# EAGLE library part EOSCOPE_XC9572-PC44 (library eOscope)
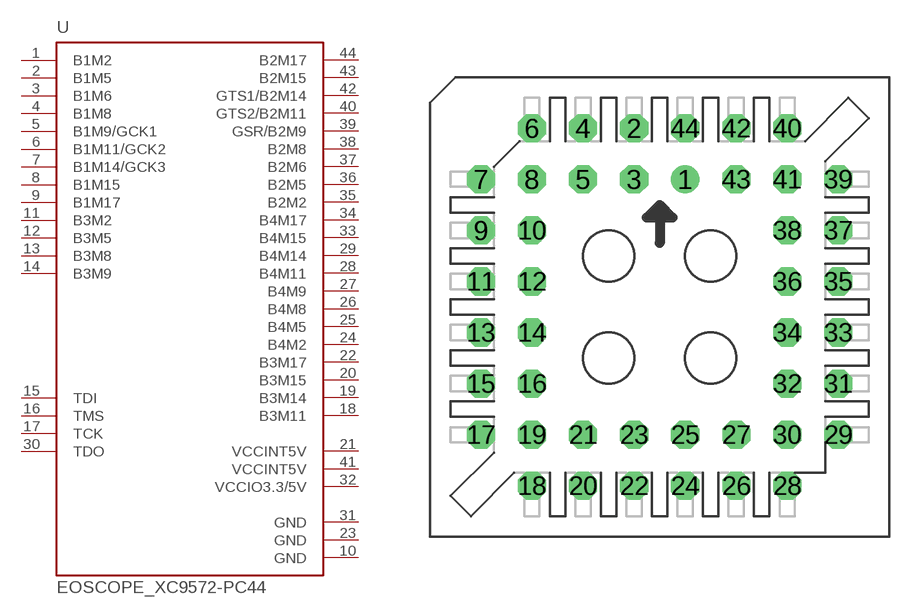
[diagram p16: symbol with the pads of EOSCOPE_PLCC-S44; footprint EOSCOPE_PLCC-S44]

Designator prefix -

## EOSCOPE_XC9572-PC44  [EOSCOPE_PLCC-S44]
1  B1M2
2  B1M5
3  B1M6
4  B1M8
5  B1M9/GCK1
6  B1M11/GCK2
7  B1M14/GCK3
8  B1M15
9  B1M17
10  GND
11  B3M2
12  B3M5
13  B3M8
14  B3M9
15  TDI
16  TMS
17  TCK
18  B3M11
19  B3M14
20  B3M15
21  VCCINT5V
22  B3M17
23  GND
24  B4M2
25  B4M5
26  B4M8
27  B4M9
28  B4M11
29  B4M14
30  TDO
31  GND
32  VCCIO3.3/5V
33  B4M15
34  B4M17
35  B2M2
36  B2M5
37  B2M6
38  B2M8
39  GSR/B2M9
40  GTS2/B2M11
41  VCCINT5V
42  GTS1/B2M14
43  B2M15
44  B2M17

## Footprint EOSCOPE_PLCC-S44 (pad centres in mm)
drill 0.813 pad 1.397 round: 1 1.27,6.35
drill 0.813 pad 1.397 octagon: 2 -1.27,8.89; 3 -1.27,6.35; 4 -3.81,8.89; 5 -3.81,6.35; 6 -6.35,8.89; 7 -8.89,6.35; 8 -6.35,6.35; 9 -8.89,3.81; 10 -6.35,3.81; 11 -8.89,1.27; 12 -6.35,1.27; 13 -8.89,-1.27; 14 -6.35,-1.27; 15 -8.89,-3.81; 16 -6.35,-3.81; 17 -8.89,-6.35; 18 -6.35,-8.89; 19 -6.35,-6.35; 20 -3.81,-8.89; 21 -3.81,-6.35; 22 -1.27,-8.89; 23 -1.27,-6.35; 24 1.27,-8.89; 25 1.27,-6.35; 26 3.81,-8.89; 27 3.81,-6.35; 28 6.35,-8.89; 29 8.89,-6.35; 30 6.35,-6.35; 31 8.89,-3.81; 32 6.35,-3.81; 33 8.89,-1.27; 34 6.35,-1.27; 35 8.89,1.27; 36 6.35,1.27; 37 8.89,3.81; 38 6.35,3.81; 39 8.89,6.35; 40 6.35,8.89; 41 6.35,6.35; 42 3.81,8.89; 43 3.81,6.35; 44 1.27,8.89